# Altium schematic symbol library IND 100UH 50MA 4 OHM SMD.Schlib: 1 symbol
Pins are listed as number, name and electrical type; pins without a type are passive.

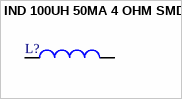
[diagram p0: symbol IND 100UH 50MA 4 OHM SMD]

## IND 100UH 50MA 4 OHM SMD
designator L?
100µH Unshielded Wirewound Inductor 50mA 4Ohm 0805 (2012 Metric)
pins: 1, 2